# Altium schematic symbol library passives.schlib: 11 symbols
Pins are listed as number, name and electrical type; pins without a type are passive.

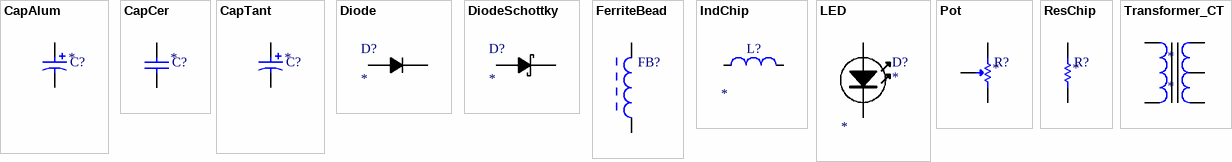
[diagram p0: symbols CapAlum to Transformer_CT]

## CapAlum
designator C?
Through-hole aluminum electrolytic capacitor; Tolerance: *; Rating: *; Package: THD, 100mil pitch, 4.5mm diameter; Value: *
footprint KYC_12.5mm_cap (KYC though hole electrolytic cap in 12.5mm diameter case. 0.6mm lead diameter. 5.0mm +- 0.5mm Lead spacing)
footprint CAP_UMA_3X5_NCH
footprint C_ULM
pins: 1, 2

## CapCer
designator C?
SMD Ceramic Capacitor; Tolerance: *; Rating: *; EIA RS-198 Code: *; Package: *; Value: *
footprint C0402_high_density (Chip Capacitor, 2-Leads, Body 1.00x0.50mm, IPC High Density)
footprint C0402_low_density (Chip Capacitor, 2-Leads, Body 1.00x0.50mm, IPC Low Density)
footprint C0402_med_density (Chip Capacitor, 2-Leads, Body 1.00x0.50mm, IPC Medium Density)
footprint C0603_med_density (Chip Capacitor, Body 1.6x0.8mm, Height 1.0mm, IPC Medium Density)
footprint C0805_med_density (Chip Capacitor, Body 2.0x1.2mm, Height 0.75mm, IPC Medium Density)
pins: 1, 2

## CapTant
designator C?
Through-hole tantalum capacitor; Tolerance: *; Rating: *; Package: THD, 100mil pitch, 4.5mm diameter; Value: *
footprint C_THD_Pol (THD, 2-Leads, Dia 4.5mm, Height 7.5mm)
footprint C1206_tant_high_density (Molded TAN Capacitor, 2-Leads, Body 3.4x1.8mm, IPC High Density)
footprint C1206_tant_low_density (Molded TAN Capacitor, 2-Leads, Body 3.4x1.8mm, IPC Low Density)
footprint C1206_tant_med_density (Molded TAN Capacitor, 2-Leads, Body 3.4x1.8mm, IPC Medium Density)
pins: 1, 2

## Diode
designator D?
General purpose diode; PartNumber: *; Package: *
footprint DO-35 (TH, 2-Leads, Dia 1.665mm, Body 4.065x1.665mm)
footprint SOD-27 (SOD27, 2-Leads, Dia 1.85mm, Body Length 4.25mm, Pin Spacing 9mm)
footprint SOD-123 (SOD123, 2-Leads, Body 2.7x1.55mm, Height 1.45mm)
footprint SOD-323 (SMD, 2-Leads, Body 1.775x1.3mm)
footprint SOD-523 (SOD523, 2-Leads, Body 1.2x0.8mm)
footprint DO-15 (AXIAL, 2-Leads, Diameter 3.49mm)
footprint DO-41 (AXIAL, 2-Leads, Diameter 2.35mm nominal)
pins: 1, 2

## DiodeSchottky
designator D?
Schottky Diode; PartNumber: *; Package: *
footprint DO-35 (TH, 2-Leads, Dia 1.665mm, Body 4.065x1.665mm)
footprint SOD-27 (SOD27, 2-Leads, Dia 1.85mm, Body Length 4.25mm, Pin Spacing 9mm)
footprint SOD-123 (SOD123, 2-Leads, Body 2.7x1.55mm, Height 1.45mm)
footprint SOD-323 (SMD, 2-Leads, Body 1.775x1.3mm)
footprint SOD-523 (SOD523, 2-Leads, Body 1.2x0.8mm)
footprint DO-15 (AXIAL, 2-Leads, Diameter 3.49mm)
footprint DO-41 (AXIAL, 2-Leads, Diameter 2.35mm nominal)
footprint DO-201AD
pins: 1, 2

## FerriteBead
designator FB?  (value not drawn)
SMD Ferrite bead; Value: *; Rating: *; Package: *
footprint L0402_low_density (Chip Inductor, 2-Leads, Body 1.1x0.7mm, IPC Low Density)
footprint C0603_med_density (Chip Capacitor, Body 1.6x0.8mm, Height 1.0mm, IPC Medium Density)
pins: 1, 2

## IndChip
designator L?
SMD Chip fixed-value inductor; Rating: *; Tolerance: *; Package: *; Value: *
footprint L0402_high_density (Chip Inductor, 2-Leads, Body 1.1x0.7mm, IPC High Density)
footprint L0402_med_density (Chip Inductor, 2-Leads, Body 1.1x0.7mm, IPC Medium Density)
footprint L0402_low_density (Chip Inductor, 2-Leads, Body 1.1x0.7mm, IPC Low Density)
pins: 1, 2

## LED
designator D?
Light-emitting diode; Package: *; Value: *
footprint LED0805 (0805 LED)
pins: A, K

## Pot
designator R?
Potentiometer; Tolerance: *; Rating: *; Package: *; Value: *
footprint Breakaway Header 3x1 (100 mil pitch breakaway header)
footprint Route-friendly Breakaway Header 3x1 (100 mil pitch breakaway header)
pins: 1, 2 Wiper, 3

## ResChip
designator R?
SMD Chip resistor; Tolerance: *; Rating: *; Package: *; Value: *
footprint R0402_low_density (Chip Resistor, 2-Leads, Body 1.00x0.50mm, IPC Low Density)
footprint R0402_med_density (Chip Resistor, 2-Leads, Body 1.00x0.50mm, IPC Medium Density)
footprint R0402_high_density (Chip Resistor, 2-Leads, Body 1.00x0.50mm, IPC High Density)
footprint R0603_med_density (Chip Resistor, Body 1.6x0.8mm, IPC Medium Density)
footprint R0805_med_density (Chip Resistor, Body 2.0x1.3mm, IPC Medium Density)
footprint R1210_med_density (Chip Resistor, 2-Leads, Body 3.20x2.50mm, IPC Medium Density)
pins: 1, 2

## Transformer_CT
designator *
pins: 1  , 1  , 2  , 2  , 2